# EAGLE library part DRQ-12/50-L48_PMBUS (library PowerSupply)
DRQ-12/50-L48 48VDC --> 12VDC power converter
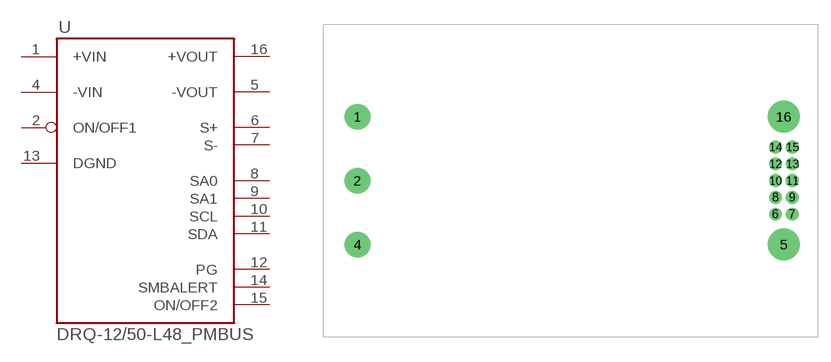
[diagram p0: symbol with the pads of ABC(PMBUS); footprint ABC(PMBUS)]

Designator prefix U

## DRQ-12/50-L48_PMBUS  [ABC(PMBUS)]
1  +VIN
2  ON/OFF1
4  -VIN
5  -VOUT
6  S+
7  S-
8  SA0
9  SA1
10  SCL
11  SDA
12  PG
13  DGND
14  SMBALERT
15  ON/OFF2
16  +VOUT

## Footprint ABC(PMBUS) (pad centres in mm)
drill 1.651 pad 3.048: 1 -25.4,7.62; 2 -25.4,0; 4 -25.4,-7.62
drill 2.21 pad 3.81: 5 25.4,-7.62; 16 25.4,7.62
drill 1.016: 6 24.409,-4.013; 7 26.416,-4.013; 8 24.409,-2.007; 9 26.416,-2.007; 10 24.409,0; 11 26.416,0; 12 24.409,2.007; 13 26.416,2.007; 14 24.409,4.013; 15 26.416,4.013